# Altium schematic symbol library songshuai.SCHLIB: 76 symbols
Pins are listed as number, name and electrical type; pins without a type are passive.

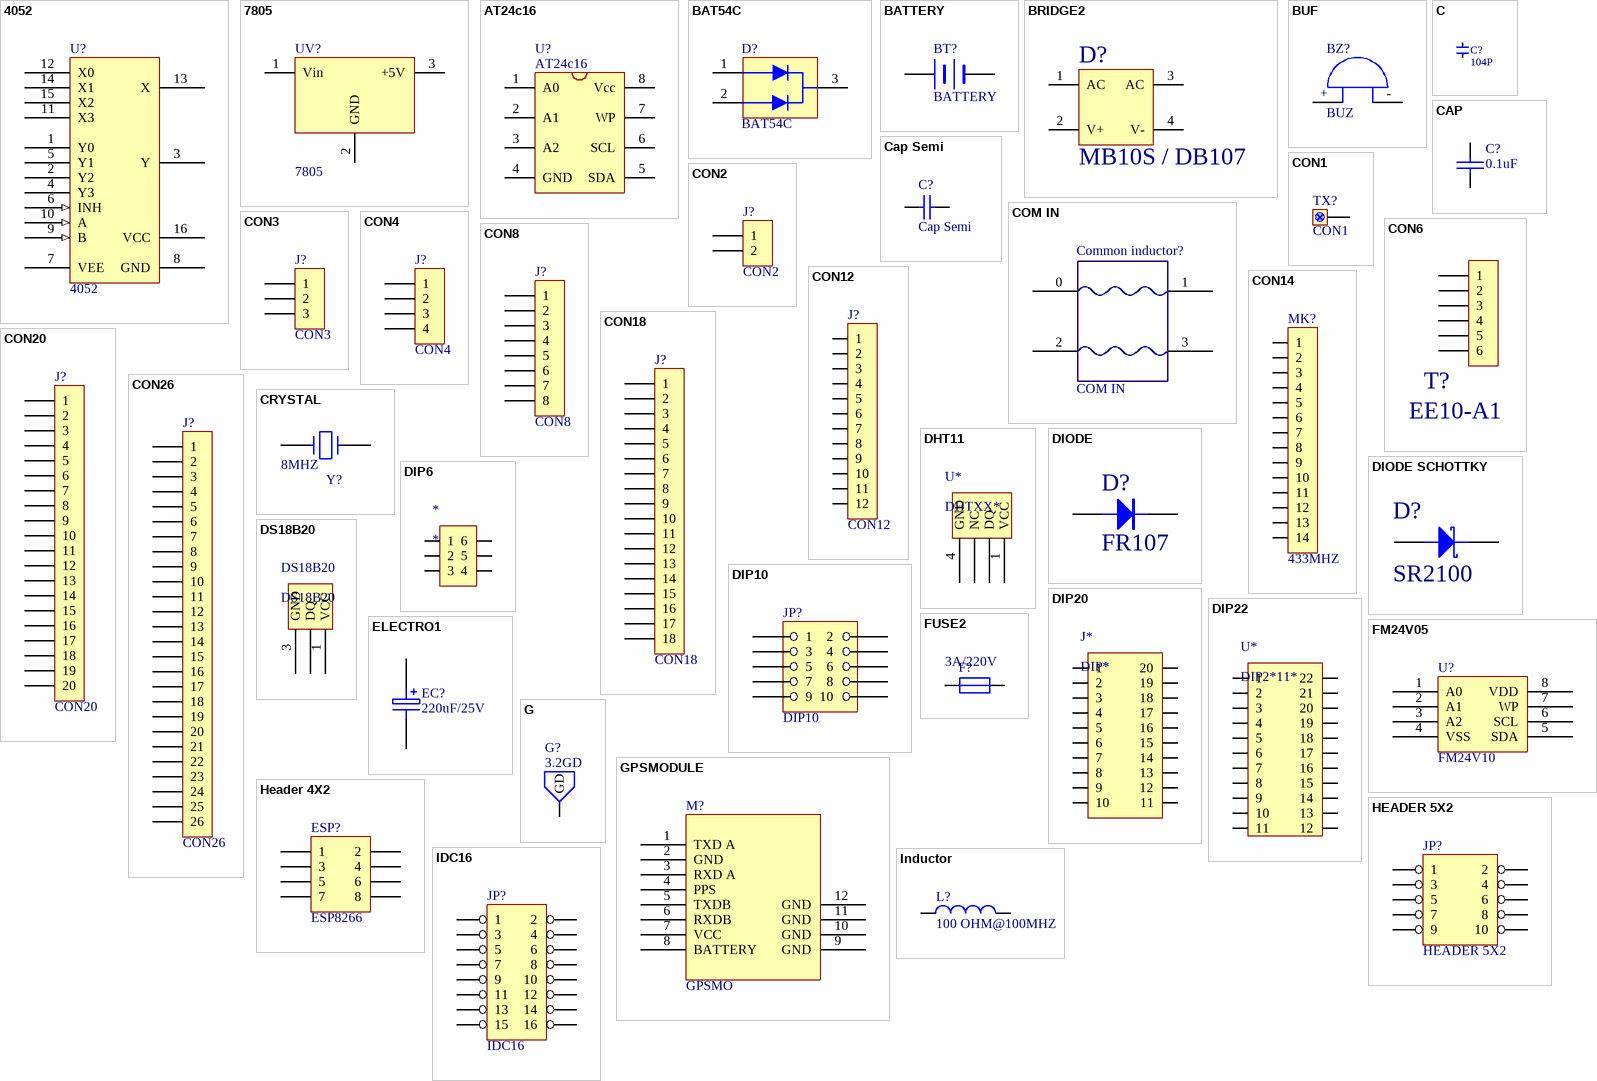
[diagram p0: symbols 4052 to Inductor]

## 4052
designator U?
pins: 1 Y0, 2 Y2, 3 Y, 4 Y3, 5 Y1, 6 INH (in), 7 VEE, 8 GND (power), 9 B (in), 10 A (in), 11 X3, 12 X0, 13 X, 14 X1, 15 X2, 16 VCC (power)

## 7805
designator UV?
footprint 78l00
footprint TO220V
footprint TO220VS
footprint SMD-220
pins: 1 Vin, 2 GND, 3 +5V

## AT24c16
designator U?
pins: 1 A0, 2 A1, 3 A2, 4 GND, 5 SDA, 6 SCL, 7 WP, 8 Vcc

## BAT54C
designator D?
footprint SOT-23
pins: 1, 2, 3

## BATTERY
designator BT?
footprint BAT-14250
pins: 1 +, 2 -

## BRIDGE2
designator D?, comment MB10S / DB107
Diode Bridge
footprint BRIDGE
footprint DB107
pins: 1 AC, 2 V+, 3 AC, 4 V-

## BUF
designator BZ?, comment BUZ
footprint BZ
pins: +, -

## C
designator C?, comment 104P
footprint 0603C
footprint 0805C
footprint RAD0.2
footprint RAD0.4
footprint 0805c
pins: 1, 2

## CAP
designator C?, comment 0.1uF
Capacitor
footprint 0805C
pins: 1, 2

## Cap Semi
designator C?
Capacitor (Semiconductor SIM Model); Value: 100pF; Published: 8-Jun-2000; LatestRevisionDate: 17-Jul-2002; LatestRevisionNote: Re-released for DXP Platform.; PackageReference: C1206; Publisher: Altium Limited
footprint 0805C
pins: 1, 2

## COM IN
designator Common inductor?
pins: 0, 1, 2, 3

## CON1
designator TX?
footprint SIP1
pins: 1

## CON2
designator J?
Connector
footprint H2-2
footprint H2
pins: 1, 2

## CON3
designator J?
Connector
footprint 1x3p
footprint H3
pins: 1, 2, 3

## CON4
designator J?
Connector
footprint DZ5.08-4
footprint H4
pins: 1, 2, 3, 4

## CON6
designator T?, comment EE10-A1
Connector
footprint EE10-4-2
pins: 1, 2, 3, 4, 5, 6

## CON8
designator J?
Connector
footprint 1x8p
footprint H8
pins: 1, 2, 3, 4, 5, 6, 7, 8

## CON12
designator J?
footprint IDC12-2.0
pins: 1, 2, 3, 4, 5, 6, 7, 8, 9, 10, 11, 12

## CON14
designator MK?, comment 433MHZ
footprint 433MK
pins: 1, 2, 3, 4, 5, 6, 7, 8, 9, 10, 11, 12, 13, 14

## CON18
designator J?
footprint FFC/SM1.0-2W18
pins: 1, 2, 3, 4, 5, 6, 7, 8, 9, 10, 11, 12, 13, 14, 15, 16, 17, 18

## CON20
designator J?
Connector
footprint IDC20-P
pins: 1, 2, 3, 4, 5, 6, 7, 8, 9, 10, 11, 12, 13, 14, 15, 16, 17, 18, 19, 20

## CON26
designator J?
footprint GPSSOUND
pins: 1, 2, 3, 4, 5, 6, 7, 8, 9, 10, 11, 12, 13, 14, 15, 16, 17, 18, 19, 20, 21, 22, 23, 24, 25, 26

## CRYSTAL
designator Y?, comment 8MHZ
Crystal
footprint XTAL-1
pins: 1, 2

## DHT11
designator U*, comment DHTXX*
pins: 1 VCC, 2 DQ, 3 NC, 4 GND

## DIODE
designator D?, comment FR107
Diode
footprint D5MM
pins: 1 A, 2 K

## DIODE SCHOTTKY
designator D?, comment SR2100
Schottky Diode
footprint D5MM
pins: 1 A, 2 K

## DIP6
designator *
pins: 1, 2, 3, 4, 5, 6

## DIP10
designator JP?
12 Pin Header
pins: 1, 2, 3, 4, 5, 6, 7, 8, 9, 10

## DIP20
designator J*, comment DIP*
pins: 1, 2, 3, 4, 5, 6, 7, 8, 9, 10, 11, 12, 13, 14, 15, 16, 17, 18, 19, 20

## DIP22
designator U*, comment DIP2*11*
pins: 1, 2, 3, 4, 5, 6, 7, 8, 9, 10, 11, 12, 13, 14, 15, 16, 17, 18, 19, 20, 21, 22

## DS18B20
designator DS18B20
pins: 1 VCC, 2 DQ, 3 GND

## ELECTRO1
designator EC?, comment 220uF/25V
Electrolytic Capacitor
footprint TYPE_B
footprint RB.1/.2B
pins: 1, 2
2 alternate drawings of the same symbol

## FM24V05
designator U?, comment FM24V10
footprint SO-8
pins: 1 A0, 2 A1, 3 A2, 4 VSS, 5 SDA, 6 SCL, 7 WP, 8 VDD

## FUSE2
designator F?, comment 3A/220V
footprint F1
pins: 1, 2

## G
designator G?, comment 3.2GD
footprint 3.2GD
pins: 0 GD

## GPSMODULE
designator M?, comment GPSMO
footprint GPSMO
pins: 1 TXD A, 2 GND, 3 RXD A, 4 PPS, 5 TXDB, 6 RXDB, 7 VCC, 8 BATTERY, 9 GND, 10 GND, 11 GND, 12 GND

## Header 4X2
designator ESP?, comment ESP8266
Header, 4-Pin, Dual row; LatestRevisionDate: 17-Jul-2002; LatestRevisionNote: Re-released for DXP Platform.; Publisher: Altium Limited
footprint HDR2X4 (Connector; Header; 4x2 Position)
signal-integrity model Connector
pins: 1, 2, 3, 4, 5, 6, 7, 8

## HEADER 5X2
designator JP?
footprint IDC10-1.27
pins: 1, 2, 3, 4, 5, 6, 7, 8, 9, 10

## IDC16
designator JP?
footprint IDC16
pins: 1, 2, 3, 4, 5, 6, 7, 8, 9, 10, 11, 12, 13, 14, 15, 16

## Inductor
designator L?, comment 100 OHM@100MHZ
footprint Inductor_Power
footprint 0805R
pins: 1, 2

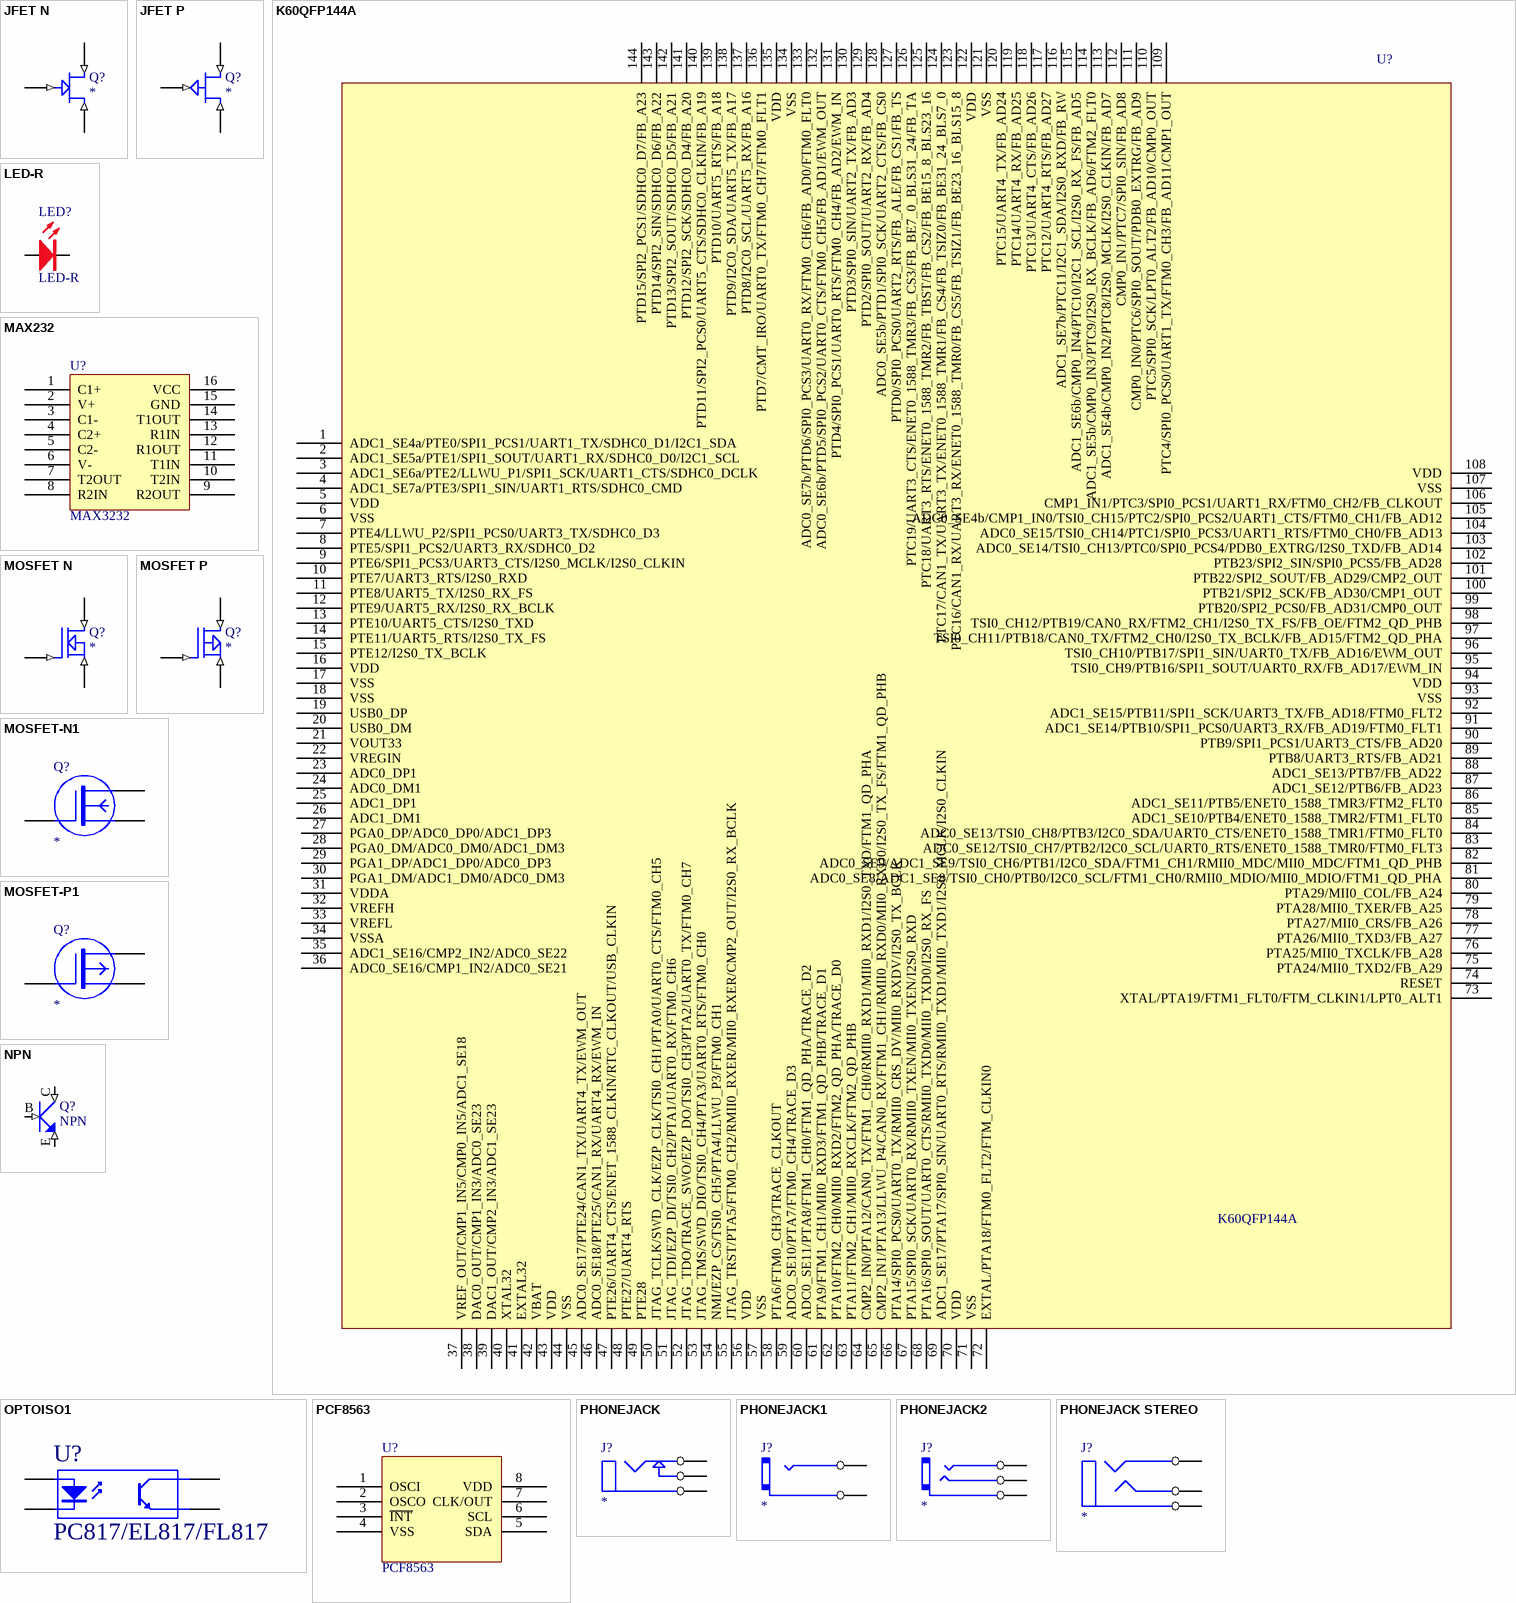
[diagram p1: symbols JFET N to PHONEJACK STEREO]

## JFET N
designator Q?
pins: 1 G (in), 2 D (in), 3 S (in)

## JFET P
designator Q?
pins: 1 G (in), 2 D (in), 3 S (in)

## K60QFP144A
designator U?
footprint LQFP144-N
pins: 1 ADC1_SE4a/PTE0/SPI1_PCS1/UART1_TX/SDHC0_D1/I2C1_SDA, 2 ADC1_SE5a/PTE1/SPI1_SOUT/UART1_RX/SDHC0_D0/I2C1_SCL, 3 ADC1_SE6a/PTE2/LLWU_P1/SPI1_SCK/UART1_CTS/SDHC0_DCLK, 4 ADC1_SE7a/PTE3/SPI1_SIN/UART1_RTS/SDHC0_CMD, 5 VDD, 6 VSS, 7 PTE4/LLWU_P2/SPI1_PCS0/UART3_TX/SDHC0_D3, 8 PTE5/SPI1_PCS2/UART3_RX/SDHC0_D2, 9 PTE6/SPI1_PCS3/UART3_CTS/I2S0_MCLK/I2S0_CLKIN, 10 PTE7/UART3_RTS/I2S0_RXD, 11 PTE8/UART5_TX/I2S0_RX_FS, 12 PTE9/UART5_RX/I2S0_RX_BCLK, 13 PTE10/UART5_CTS/I2S0_TXD, 14 PTE11/UART5_RTS/I2S0_TX_FS, 15 PTE12/I2S0_TX_BCLK, 16 VDD, 17 VSS, 18 VSS, 19 USB0_DP, 20 USB0_DM, 21 VOUT33, 22 VREGIN, 23 ADC0_DP1, 24 ADC0_DM1, 25 ADC1_DP1, 26 ADC1_DM1, 27 PGA0_DP/ADC0_DP0/ADC1_DP3, 28 PGA0_DM/ADC0_DM0/ADC1_DM3, 29 PGA1_DP/ADC1_DP0/ADC0_DP3, 30 PGA1_DM/ADC1_DM0/ADC0_DM3, 31 VDDA, 32 VREFH, 33 VREFL, 34 VSSA, 35 ADC1_SE16/CMP2_IN2/ADC0_SE22, 36 ADC0_SE16/CMP1_IN2/ADC0_SE21, 37 VREF_OUT/CMP1_IN5/CMP0_IN5/ADC1_SE18, 38 DAC0_OUT/CMP1_IN3/ADC0_SE23, 39 DAC1_OUT/CMP2_IN3/ADC1_SE23, 40 XTAL32, 41 EXTAL32, 42 VBAT, 43 VDD, 44 VSS, 45 ADC0_SE17/PTE24/CAN1_TX/UART4_TX/EWM_OUT, 46 ADC0_SE18/PTE25/CAN1_RX/UART4_RX/EWM_IN, 47 PTE26/UART4_CTS/ENET_1588_CLKIN/RTC_CLKOUT/USB_CLKIN, 48 PTE27/UART4_RTS, 49 PTE28, 50 JTAG_TCLK/SWD_CLK/EZP_CLK/TSI0_CH1/PTA0/UART0_CTS/FTM0_CH5, 51 JTAG_TDI/EZP_DI/TSI0_CH2/PTA1/UART0_RX/FTM0_CH6, 52 JTAG_TDO/TRACE_SWO/EZP_DO/TSI0_CH3/PTA2/UART0_TX/FTM0_CH7, 53 JTAG_TMS/SWD_DIO/TSI0_CH4/PTA3/UART0_RTS/FTM0_CH0, 54 NMI/EZP_CS/TSI0_CH5/PTA4/LLWU_P3/FTM0_CH1, 55 JTAG_TRST/PTA5/FTM0_CH2/RMII0_RXER/MII0_RXER/CMP2_OUT/I2S0_RX_BCLK, 56 VDD, 57 VSS, 58 PTA6/FTM0_CH3/TRACE_CLKOUT, 59 ADC0_SE10/PTA7/FTM0_CH4/TRACE_D3, 60 ADC0_SE11/PTA8/FTM1_CH0/FTM1_QD_PHA/TRACE_D2, 61 PTA9/FTM1_CH1/MII0_RXD3/FTM1_QD_PHB/TRACE_D1, 62 PTA10/FTM2_CH0/MII0_RXD2/FTM2_QD_PHA/TRACE_D0, 63 PTA11/FTM2_CH1/MII0_RXCLK/FTM2_QD_PHB, 64 CMP2_IN0/PTA12/CAN0_TX/FTM1_CH0/RMII0_RXD1/MII0_RXD1/I2S0_TXD/FTM1_QD_PHA, 65 CMP2_IN1/PTA13/LLWU_P4/CAN0_RX/FTM1_CH1/RMII0_RXD0/MII0_RXD0/I2S0_TX_FS/FTM1_QD_PHB, 66 PTA14/SPI0_PCS0/UART0_TX/RMII0_CRS_DV/MII0_RXDV/I2S0_TX_BCLK, 67 PTA15/SPI0_SCK/UART0_RX/RMII0_TXEN/MII0_TXEN/I2S0_RXD, 68 PTA16/SPI0_SOUT/UART0_CTS/RMII0_TXD0/MII0_TXD0/I2S0_RX_FS, 69 ADC1_SE17/PTA17/SPI0_SIN/UART0_RTS/RMII0_TXD1/MII0_TXD1/I2S0_MCLK/I2S0_CLKIN, 70 VDD, 71 VSS, 72 EXTAL/PTA18/FTM0_FLT2/FTM_CLKIN0, 73 XTAL/PTA19/FTM1_FLT0/FTM_CLKIN1/LPT0_ALT1, 74 RESET, 75 PTA24/MII0_TXD2/FB_A29, 76 PTA25/MII0_TXCLK/FB_A28, 77 PTA26/MII0_TXD3/FB_A27, 78 PTA27/MII0_CRS/FB_A26, 79 PTA28/MII0_TXER/FB_A25, 80 PTA29/MII0_COL/FB_A24, 81 ADC0_SE8/ADC1_SE8/TSI0_CH0/PTB0/I2C0_SCL/FTM1_CH0/RMII0_MDIO/MII0_MDIO/FTM1_QD_PHA, 82 ADC0_SE9/ADC1_SE9/TSI0_CH6/PTB1/I2C0_SDA/FTM1_CH1/RMII0_MDC/MII0_MDC/FTM1_QD_PHB, 83 ADC0_SE12/TSI0_CH7/PTB2/I2C0_SCL/UART0_RTS/ENET0_1588_TMR0/FTM0_FLT3, 84 ADC0_SE13/TSI0_CH8/PTB3/I2C0_SDA/UART0_CTS/ENET0_1588_TMR1/FTM0_FLT0, 85 ADC1_SE10/PTB4/ENET0_1588_TMR2/FTM1_FLT0, 86 ADC1_SE11/PTB5/ENET0_1588_TMR3/FTM2_FLT0, 87 ADC1_SE12/PTB6/FB_AD23, 88 ADC1_SE13/PTB7/FB_AD22, 89 PTB8/UART3_RTS/FB_AD21, 90 PTB9/SPI1_PCS1/UART3_CTS/FB_AD20, 91 ADC1_SE14/PTB10/SPI1_PCS0/UART3_RX/FB_AD19/FTM0_FLT1, 92 ADC1_SE15/PTB11/SPI1_SCK/UART3_TX/FB_AD18/FTM0_FLT2, 93 VSS, 94 VDD, 95 TSI0_CH9/PTB16/SPI1_SOUT/UART0_RX/FB_AD17/EWM_IN, 96 TSI0_CH10/PTB17/SPI1_SIN/UART0_TX/FB_AD16/EWM_OUT, 97 TSI0_CH11/PTB18/CAN0_TX/FTM2_CH0/I2S0_TX_BCLK/FB_AD15/FTM2_QD_PHA, 98 TSI0_CH12/PTB19/CAN0_RX/FTM2_CH1/I2S0_TX_FS/FB_OE/FTM2_QD_PHB, 99 PTB20/SPI2_PCS0/FB_AD31/CMP0_OUT, 100 PTB21/SPI2_SCK/FB_AD30/CMP1_OUT, 101 PTB22/SPI2_SOUT/FB_AD29/CMP2_OUT, 102 PTB23/SPI2_SIN/SPI0_PCS5/FB_AD28, 103 ADC0_SE14/TSI0_CH13/PTC0/SPI0_PCS4/PDB0_EXTRG/I2S0_TXD/FB_AD14, 104 ADC0_SE15/TSI0_CH14/PTC1/SPI0_PCS3/UART1_RTS/FTM0_CH0/FB_AD13, 105 ADC0_SE4b/CMP1_IN0/TSI0_CH15/PTC2/SPI0_PCS2/UART1_CTS/FTM0_CH1/FB_AD12, 106 CMP1_IN1/PTC3/SPI0_PCS1/UART1_RX/FTM0_CH2/FB_CLKOUT, 107 VSS, 108 VDD, 109 PTC4/SPI0_PCS0/UART1_TX/FTM0_CH3/FB_AD11/CMP1_OUT, 110 PTC5/SPI0_SCK/LPT0_ALT2/FB_AD10/CMP0_OUT, 111 CMP0_IN0/PTC6/SPI0_SOUT/PDB0_EXTRG/FB_AD9, 112 CMP0_IN1/PTC7/SPI0_SIN/FB_AD8, 113 ADC1_SE4b/CMP0_IN2/PTC8/I2S0_MCLK/I2S0_CLKIN/FB_AD7, 114 ADC1_SE5b/CMP0_IN3/PTC9/I2S0_RX_BCLK/FB_AD6/FTM2_FLT0, 115 ADC1_SE6b/CMP0_IN4/PTC10/I2C1_SCL/I2S0_RX_FS/FB_AD5, 116 ADC1_SE7b/PTC11/I2C1_SDA/I2S0_RXD/FB_RW, 117 PTC12/UART4_RTS/FB_AD27, 118 PTC13/UART4_CTS/FB_AD26, 119 PTC14/UART4_RX/FB_AD25, 120 PTC15/UART4_TX/FB_AD24, 121 VSS, 122 VDD, 123 PTC16/CAN1_RX/UART3_RX/ENET0_1588_TMR0/FB_CS5/FB_TSIZ1/FB_BE23_16_BLS15_8, 124 PTC17/CAN1_TX/UART3_TX/ENET0_1588_TMR1/FB_CS4/FB_TSIZ0/FB_BE31_24_BLS7_0, 125 PTC18/UART3_RTS/ENET0_1588_TMR2/FB_TBST/FB_CS2/FB_BE15_8_BLS23_16, 126 PTC19/UART3_CTS/ENET0_1588_TMR3/FB_CS3/FB_BE7_0_BLS31_24/FB_TA, 127 PTD0/SPI0_PCS0/UART2_RTS/FB_ALE/FB_CS1/FB_TS, 128 ADC0_SE5b/PTD1/SPI0_SCK/UART2_CTS/FB_CS0, 129 PTD2/SPI0_SOUT/UART2_RX/FB_AD4, 130 PTD3/SPI0_SIN/UART2_TX/FB_AD3, 131 PTD4/SPI0_PCS1/UART0_RTS/FTM0_CH4/FB_AD2/EWM_IN, 132 ADC0_SE6b/PTD5/SPI0_PCS2/UART0_CTS/FTM0_CH5/FB_AD1/EWM_OUT, 133 ADC0_SE7b/PTD6/SPI0_PCS3/UART0_RX/FTM0_CH6/FB_AD0/FTM0_FLT0, 134 VSS, 135 VDD, 136 PTD7/CMT_IRO/UART0_TX/FTM0_CH7/FTM0_FLT1, 137 PTD8/I2C0_SCL/UART5_RX/FB_A16, 138 PTD9/I2C0_SDA/UART5_TX/FB_A17, 139 PTD10/UART5_RTS/FB_A18, 140 PTD11/SPI2_PCS0/UART5_CTS/SDHC0_CLKIN/FB_A19, 141 PTD12/SPI2_SCK/SDHC0_D4/FB_A20, 142 PTD13/SPI2_SOUT/SDHC0_D5/FB_A21, 143 PTD14/SPI2_SIN/SDHC0_D6/FB_A22, 144 PTD15/SPI2_PCS1/SDHC0_D7/FB_A23

## LED-R
designator LED?
footprint LED-5
footprint LED
pins: A 1, K 2

## MAX232
designator U?, comment MAX3232
footprint SO-16
pins: 1 C1+, 2 V+, 3 C1-, 4 C2+, 5 C2-, 6 V-, 7 T2OUT, 8 R2IN, 9 R2OUT, 10 T2IN, 11 T1IN, 12 R1OUT, 13 R1IN, 14 T1OUT, 15 GND, 16 VCC

## MOSFET N
designator Q?
pins: 1 G (in), 2 D (in), 3 S (in)

## MOSFET P
designator Q?
pins: 1 G (in), 2 D (in), 3 S (in)

## MOSFET-N1
designator Q?
pins: 1 G, 2 D, 3 S

## MOSFET-P1
designator Q?
pins: 1 G, 2 D, 3 S

## NPN
designator Q?
footprint 8050
footprint 9013
footprint 13003
footprint SOT-23B
pins: B 2 (in), C 1 (in), E 3 (in)

## OPTOISO1
designator U?, comment PC817/EL817/FL817
Optoisolator
footprint PC817-SOP4
footprint PC817-SOP4
pins: 1 A, 2 K, 3 C, 4 E

## PCF8563
designator U?
footprint SO-8
pins: 1 OSCI, 2 OSCO, 3 ~{INT}, 4 VSS, 5 SDA, 6 SCL, 7 CLK/OUT, 8 VDD

## PHONEJACK
designator J?
pins: 1 A, 2 B, 3 C

## PHONEJACK1
designator J?
pins: 1 A, 2 B

## PHONEJACK2
designator J?
pins: 1 A, 2 B, 3 C

## PHONEJACK STEREO
designator J?
pins: 1 A, 2 B, 3 C

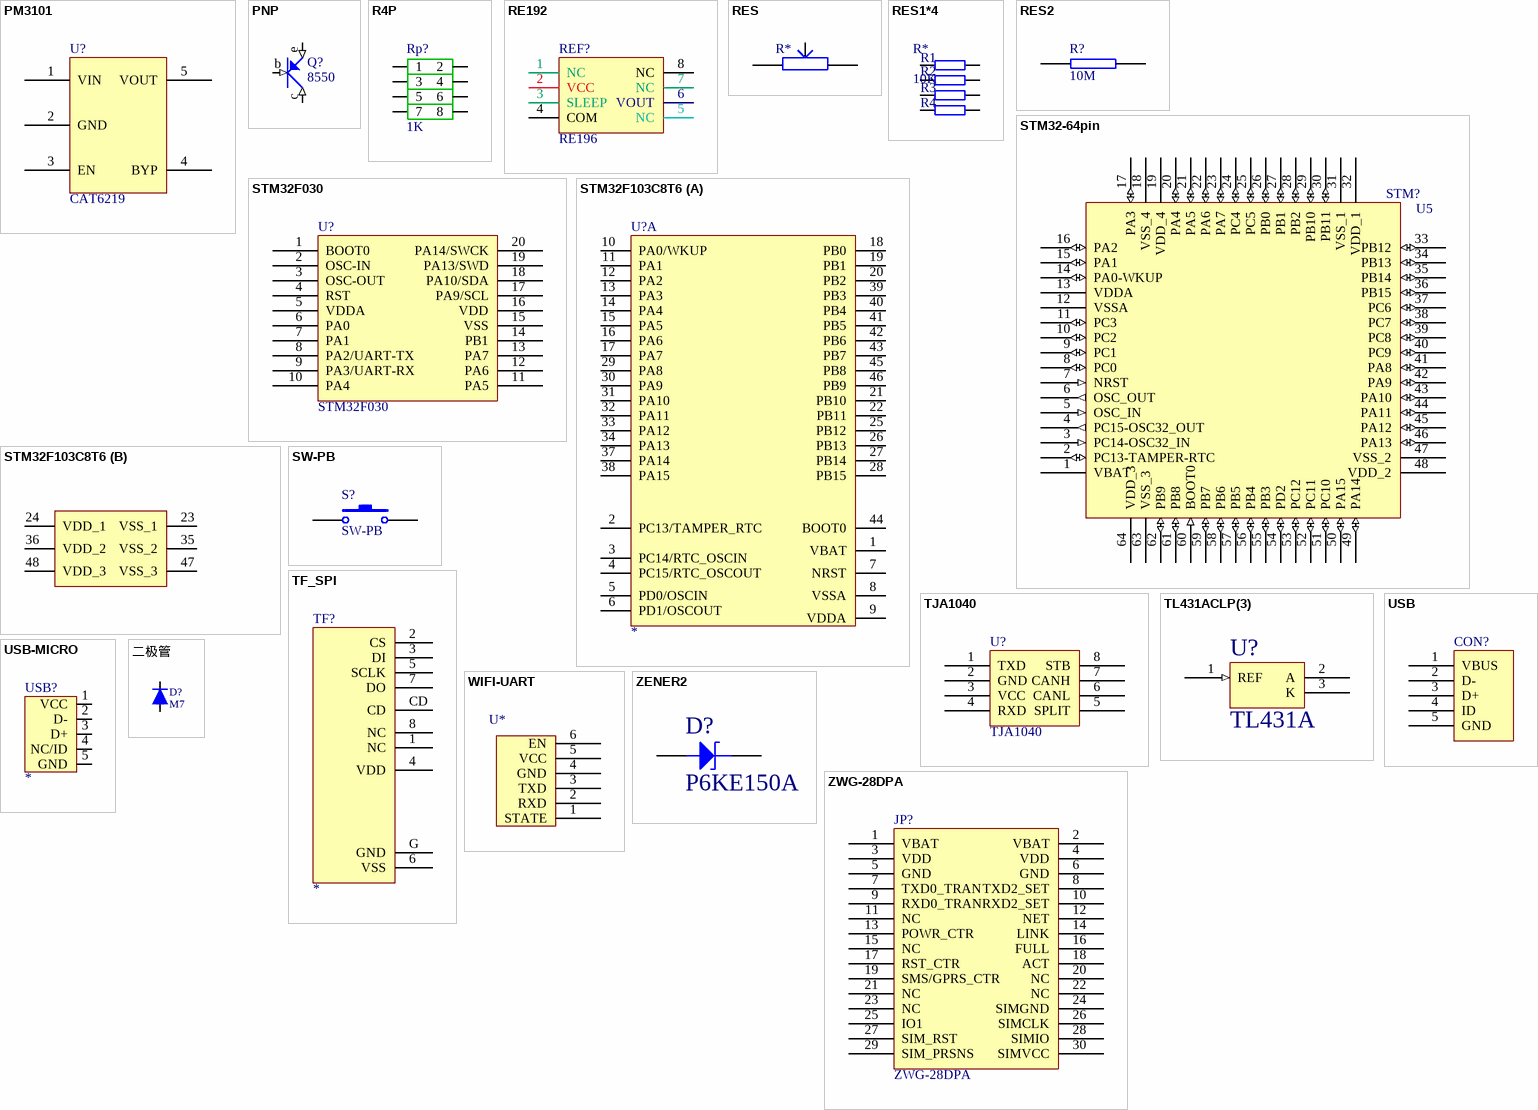
[diagram p2: symbols PM3101 to 二极管]

## PM3101
designator U?, comment CAT6219
footprint SOT23-5
pins: 1 VIN, 2 GND, 3 EN, 4 BYP, 5 VOUT

## PNP
designator Q?, comment 8550
footprint SOT-23
footprint SOT-23B
footprint MJE350L
footprint 13003
footprint 7033
footprint TO92-EBC2
pins: b 2 (in), c 3 (in), e 1 (in)

## R4P
designator Rp?, comment 1K
footprint RP4
pins: 1, 2, 3, 4, 5, 6, 7, 8

## RE192
designator REF?, comment RE196
Voltage References   5ppm
footprint so-8
pins: 1 NC, 2 VCC, 3 SLEEP, 4 COM, 5 NC, 6 VOUT, 7 NC, 8 NC

## RES
designator R*, comment RES*  (value not drawn)
pins: 1, 2, 3

## RES1*4
designator R*, comment 10K
footprint R0805-1*4-3D
pins: 1, 2, 3, 4, 5, 6, 7, 8
text: R1; R2; R3; R4

## RES2
designator R?, comment 10M
footprint 0805R
pins: 1, 2

## STM32-64pin
designator STM?, comment U5
pins: 1 VBAT (power), 2 PC13-TAMPER-RTC (io), 3 PC14-OSC32_IN (in), 4 PC15-OSC32_OUT (out), 5 OSC_IN (in), 6 OSC_OUT (out), 7 NRST (in), 8 PC0 (io), 9 PC1 (io), 10 PC2 (io), 11 PC3 (io), 12 VSSA (power), 13 VDDA (power), 14 PA0-WKUP (io), 15 PA1 (io), 16 PA2 (io), 17 PA3 (io), 18 VSS_4 (power), 19 VDD_4 (power), 20 PA4 (io), 21 PA5 (io), 22 PA6 (io), 23 PA7 (io), 24 PC4 (io), 25 PC5 (io), 26 PB0 (io), 27 PB1 (io), 28 PB2 (io), 29 PB10 (io), 30 PB11 (io), 31 VSS_1 (power), 32 VDD_1 (power), 33 PB12 (io), 34 PB13 (io), 35 PB14 (io), 36 PB15 (io), 37 PC6 (io), 38 PC7 (io), 39 PC8 (io), 40 PC9 (io), 41 PA8 (io), 42 PA9 (io), 43 PA10 (io), 44 PA11 (io), 45 PA12 (io), 46 PA13 (io), 47 VSS_2 (power), 48 VDD_2 (power), 49 PA14 (io), 50 PA15 (io), 51 PC10 (io), 52 PC11 (io), 53 PC12 (io), 54 PD2 (io), 55 PB3 (io), 56 PB4 (io), 57 PB5 (io), 58 PB6 (io), 59 PB7 (io), 60 BOOT0 (in), 61 PB8 (io), 62 PB9 (io), 63 VSS_3, 64 VDD_3

## STM32F030
designator U?
20pin，16k
footprint SSOP-20
pins: 1 BOOT0, 2 OSC-IN, 3 OSC-OUT, 4 RST, 5 VDDA, 6 PA0, 7 PA1, 8 PA2/UART-TX, 9 PA3/UART-RX, 10 PA4, 11 PA5, 12 PA6, 13 PA7, 14 PB1, 15 VSS, 16 VDD, 17 PA9/SCL, 18 PA10/SDA, 19 PA13/SWD, 20 PA14/SWCK

## STM32F103C8T6
designator U?
footprint LQFP-48-3D
part A pins: 1 VBAT, 2 PC13/TAMPER_RTC, 3 PC14/RTC_OSCIN, 4 PC15/RTC_OSCOUT, 5 PD0/OSCIN, 6 PD1/OSCOUT, 7 NRST, 8 VSSA, 9 VDDA, 10 PA0/WKUP, 11 PA1, 12 PA2, 13 PA3, 14 PA4, 15 PA5, 16 PA6, 17 PA7, 18 PB0, 19 PB1, 20 PB2, 21 PB10, 22 PB11, 25 PB12, 26 PB13, 27 PB14, 28 PB15, 29 PA8, 30 PA9, 31 PA10, 32 PA11, 33 PA12, 34 PA13, 37 PA14, 38 PA15, 39 PB3, 40 PB4, 41 PB5, 42 PB6, 43 PB7, 44 BOOT0, 45 PB8, 46 PB9
part B pins: 23 VSS_1, 24 VDD_1, 35 VSS_2, 36 VDD_2, 47 VSS_3, 48 VDD_3

## SW-PB
designator S?
Switch; Published: 24-Mar-1999; LatestRevisionDate: 17-Jul-2002; LatestRevisionNote: Re-released for DXP Platform.; PackageReference: SPST-2; Publisher: Altium Limited
footprint KEY_B
pins: 1, 2

## TF_SPI
designator TF?
footprint TF
pins: 1 NC, 2 CS, 3 DI, 4 VDD, 5 SCLK, 6 VSS, 7 DO, 8 NC, CD, G GND

## TJA1040
designator U?
footprint SO-8
pins: 1 TXD, 2 GND, 3 VCC, 4 RXD, 5 SPLIT, 6 CANL, 7 CANH, 8 STB

## TL431ACLP(3)
designator U?, comment TL431A
Programmable Precision Refrences
footprint TO-92B
footprint TL431
pins: 1 REF (in), 2 A, 3 K

## USB
designator CON?  (value not drawn)
pins: 1 VBUS, 2 D-, 3 D+, 4 ID, 5 GND

## USB-MICRO
designator USB?
footprint USB-MICRO
footprint USB-MICRO-DIP
pins: 1 VCC, 2 D-, 3 D+, 4 NC/ID, 5 GND

## WIFI-UART
designator U*, comment ESP8266-WIFI  (value not drawn)
pins: 1 STATE, 2 RXD, 3 TXD, 4 GND, 5 VCC, 6 EN

## ZENER2
designator D?, comment P6KE150A
Zener Diode
footprint D5MM
pins: 1 A, 2 K

## ZWG-28DPA
designator JP?
footprint GPRS
pins: 1 VBAT, 2 VBAT, 3 VDD, 4 VDD, 5 GND, 6 GND, 7 TXD0_TRAN, 8 TXD2_SET, 9 RXD0_TRAN, 10 RXD2_SET, 11 NC, 12 NET, 13 POWR_CTR, 14 LINK, 15 NC, 16 FULL, 17 RST_CTR, 18 ACT, 19 SMS/GPRS_CTR, 20 NC, 21 NC, 22 NC, 23 NC, 24 SIMGND, 25 IO1, 26 SIMCLK, 27 SIM_RST, 28 SIMIO, 29 SIM_PRSNS, 30 SIMVCC

## 二极管
designator D?, comment M7
footprint 1N4000TP
footprint 1N4148TP
footprint MELF1
footprint DIODE0.4
footprint SMA (US1X)
pins: A 1, K 2